# Altium schematic symbol library LMC6001AINNOPB.SchLib: 1 symbol
Pins are listed as number, name and electrical type; pins without a type are passive.

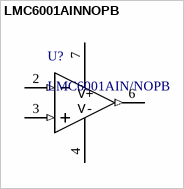
[diagram p0: symbol LMC6001AINNOPB]

## LMC6001AINNOPB
designator U?, comment LMC6001AIN/NOPB
Ultra-Low Input Current Amplifier 8-PDIP -40 to 85; Manufacturer_Name: Texas Instruments; Manufacturer: NationalSemiconductor; Characteristics: LMC6001AINUltra-LowInputBiasCurrentOpAmp; CompType: OpAmpIC; TaMin_C: -400; TaMax_C: 850; ComponentLink1DescBC: LMC6001Datasheet; ComponentLink2DescA4: LMC6001WebPage; ComponentLink3DescAC: N08EPackageWebPage; Copyright: Copyright (C) 2025 Ultra Librarian. All rights reserved.; Manufacturer_Part_Number: LMC6001AIN/NOPB; SymbolVersion: 2008-07-09; PartNumber: LMC6001AIN; PackageDescription: 8LeadPlasticDIP; PackageReference: N08E_L; RoHS: O; ComponentLink1URL: http//wwwnationalcom/ds/LM/LMC6001pdf; ComponentLink2URL: http//wwwnationalcom/pf/LM/LMC6001html; ComponentLink3URL: http//wwwnationalcom/packaging/folders/n08ehtml; Version: B1608; LatestRevisionDate: 2009-03-16; LatestRevisionNote: MassUpdate; Publisher: NationalSemiconductor; Published: 2009-03-16
footprint N08E_L
pins: 2 IN- (in), 3 IN+ (in), 4 V- (power), 6 OUT (out), 7 V+ (power)